# Altium footprint library STlinkv21.PcbLib: 5 footprints
Each footprint in its own frame and in the unit in brackets; x right, y up, seen from the top. Pads: shape width x height; smd on the part's side, far side on the other; paste and mask are expansions set on the pad; w line width, h text height; cw(c..) or ccw(c..) is an arc to the next point about the centre after c.
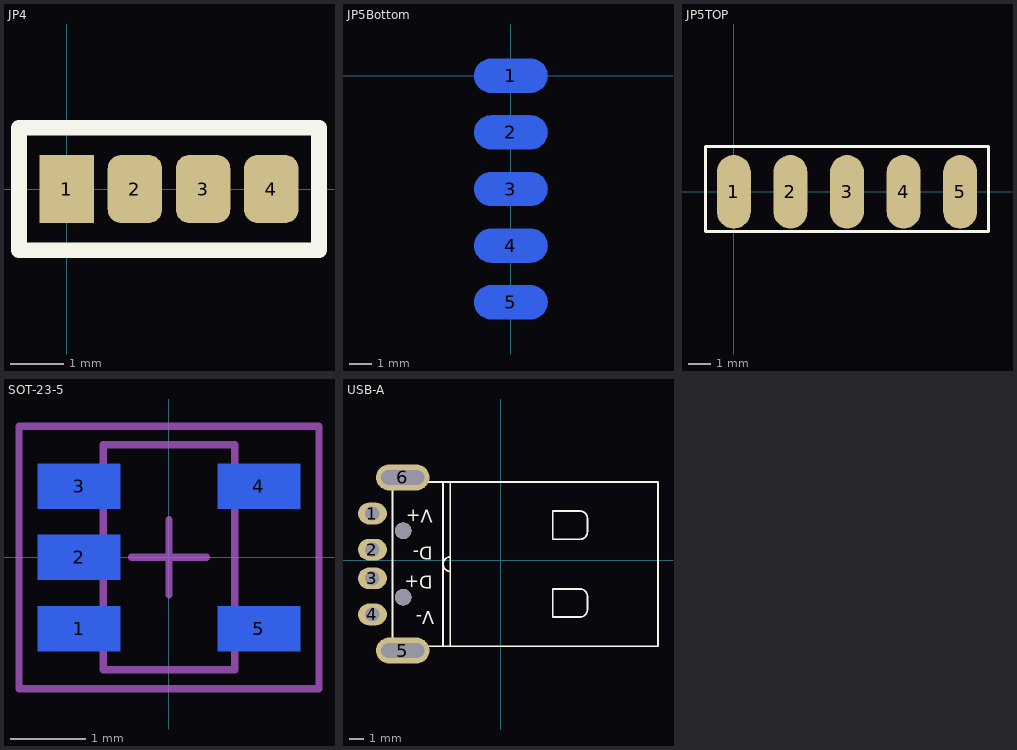
[diagram p0: the footprints below, top view; thin cyan lines are the x and y axes]

## JP4 [mil]
pads (4):
  rect 40x50 smd: 1(0,0)
  rrect50% 40x50 smd: 2(50,0) 3(100,0) 4(150,0)
Top Overlay:
  lines w11.5: -35,-45 -35,45 185,45 185,-45 -35,-45

## JP5Bottom [mil]
pads (5):
  oval 130x60 smd far side: 1(0,0) 2(0,-100) 3(0,-200) 4(0,-300) 5(0,-400)
Bottom Overlay:
  lines w5: -80,-450 -80,50 30,50 70,50 70,-450 -80,-450
3D body "1001-5.STEP": height 70, standoff -30, extent -48.11,-450 406.22,50

## JP5TOP [mil]
pads (5):
  oval 60x130 smd: 1(0,0) 2(100,0) 3(200,0) 4(300,0) 5(400,0)
Top Overlay:
  lines w5: -50,-70 450,-70 450,80 -50,80 -50,-30 -50,-70
3D body "1001-5.STEP": height 70, standoff -30, extent -50,-406.22 450,48.11

## SOT-23-5 [mm]
pads (5):
  rect 1.1x0.6 smd far side: 1(-1.2,-0.95) 2(-1.2,0) 3(-1.2,0.95) 4(1.2,0.95) 5(1.2,-0.95)
Bottom Overlay:
  circle w0.25: c-1.2,-1.8 r0.125
  lines w0.2: -0.25,-1.5 0.25,-1.5 0.25,1.5 -0.25,1.5 -0.25,-1.5
Mechanical 13:
  lines w0.1: -0.875,-1.5 -0.875,1.5 0.875,1.5 0.875,-1.5 -0.875,-1.5
Mechanical 15:
  lines w0.1: -0.5,0 0.5,0 ; 0,-0.5 0,0.5 ; -2,-1.75 -2,1.75 2,1.75 2,-1.75 -2,-1.75
3D body "SOT23-5.STEP": height 1.2, standoff 0, extent -1.4,-1.45 1.4,1.45

## USB-A [mm]
pads (8):
  oval 2x1.5 hole 1: 1(-8.893,3.246) 2(-8.893,0.746) 3(-8.893,-1.254) 4(-8.893,-3.754)
  oval 3.7x1.8 hole 1 slot 3 at 0 deg: 5(-6.793,-6.254) 6(-6.793,5.746)
  round 1.143 hole 1.143 unplated: ""(-6.763,-2.554) ""(-6.763,2.046)
Top Overlay:
  lines w0.127: -7.491,-5.469 -7.491,4.951 ; -5.091,-5.959 10.909,-5.959 10.909,5.441 -5.091,5.441 ; -3.991,-5.959 -3.991,5.441 ; -3.491,-5.959 -3.491,5.441 ; -3.491,-0.759 cw(c-3.491,-0.259) -3.491,0.241 ; 3.609,-3.934 3.609,-1.984 5.509,-1.984 cw(c5.509,-2.484) 6.009,-2.484 6.009,-3.434 cw(c5.509,-3.434) 5.509,-3.934 3.609,-3.934 ; 3.609,1.466 3.609,3.416 5.509,3.416 cw(c5.509,2.916) 6.009,2.916 6.009,1.966 cw(c5.509,1.966) 5.509,1.466 3.609,1.466
  text "D+" at -4.699,-0.762 h1.52
  text "V+" at -4.699,3.81 h1.52
  text "V-" at -4.623,-3.229 h1.52
  text "D-" at -4.699,1.27 h1.52
Mechanical 1:
  circle w0.127: c-6.763,2.046 r0.5
  circle w0.127: c-6.763,-2.554 r0.5
  lines w0.127: -7.691,-6.759 cw(c-7.691,-6.259) -7.691,-5.759 -5.891,-5.759 cw(c-5.891,-6.259) -5.891,-6.759 -7.691,-6.759 ; -7.691,5.241 cw(c-7.691,5.741) -7.691,6.241 -5.891,6.241 cw(c-5.891,5.741) -5.891,5.241 -7.691,5.241
3D body "USB-AM-S-F-B-TH.step": height 3.12, standoff -2.58, extent -9.123,-6.504 10.907,5.996